# Altium schematic symbol library schLib.SchLib: 3 symbols
Pins are listed as number, name and electrical type; pins without a type are passive.

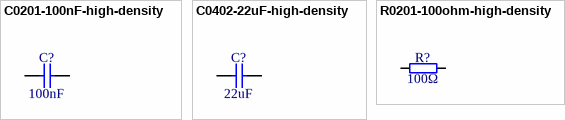
[diagram p0: symbols C0201-100nF-high-density to R0201-100ohm-high-density]

## C0201-100nF-high-density
designator C?, comment 100nF
GRM033R61C104KE14; Vmax: 16V; Value: 100nF
footprint MURATA_HI_DENSITY_0201
pins: 1, 2

## C0402-22uF-high-density
designator C?, comment 22uF
GRM155R60J226ME11; Vmax: 6.3V; Value: 22uF
footprint MURATA_HI_DENSITY_0402_CAP
pins: 1, 2

## R0201-100ohm-high-density
designator R?, comment 100Ω
Resistor; Value: 100Ω
footprint MURATA_HI_DENSITY_0201
pins: 1, 2